# Altium integrated library SWITCH_SMT.IntLib: 1 symbol
Pins are listed as number, name and electrical type; pins without a type are passive.

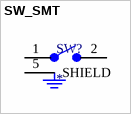
[diagram p0: symbol SW_SMT]

## SW_SMT
designator SW?
MP: TS06-667-25-BK-100-G-SMT-TR; MF: {'manufacturer': u'CUI'}; Value: *; Package: None; Price: None; Availability: Unavailable
footprint SW_TS06-667-25-BK-100-G-SMT-TR
pins: 1, 2, 3 hidden, 4 hidden, 5 SHIELD